# Altium integrated library Analog Devices Switches and Multiplexers Analog Switches.IntLib: 575 symbols (part 23 of 23)
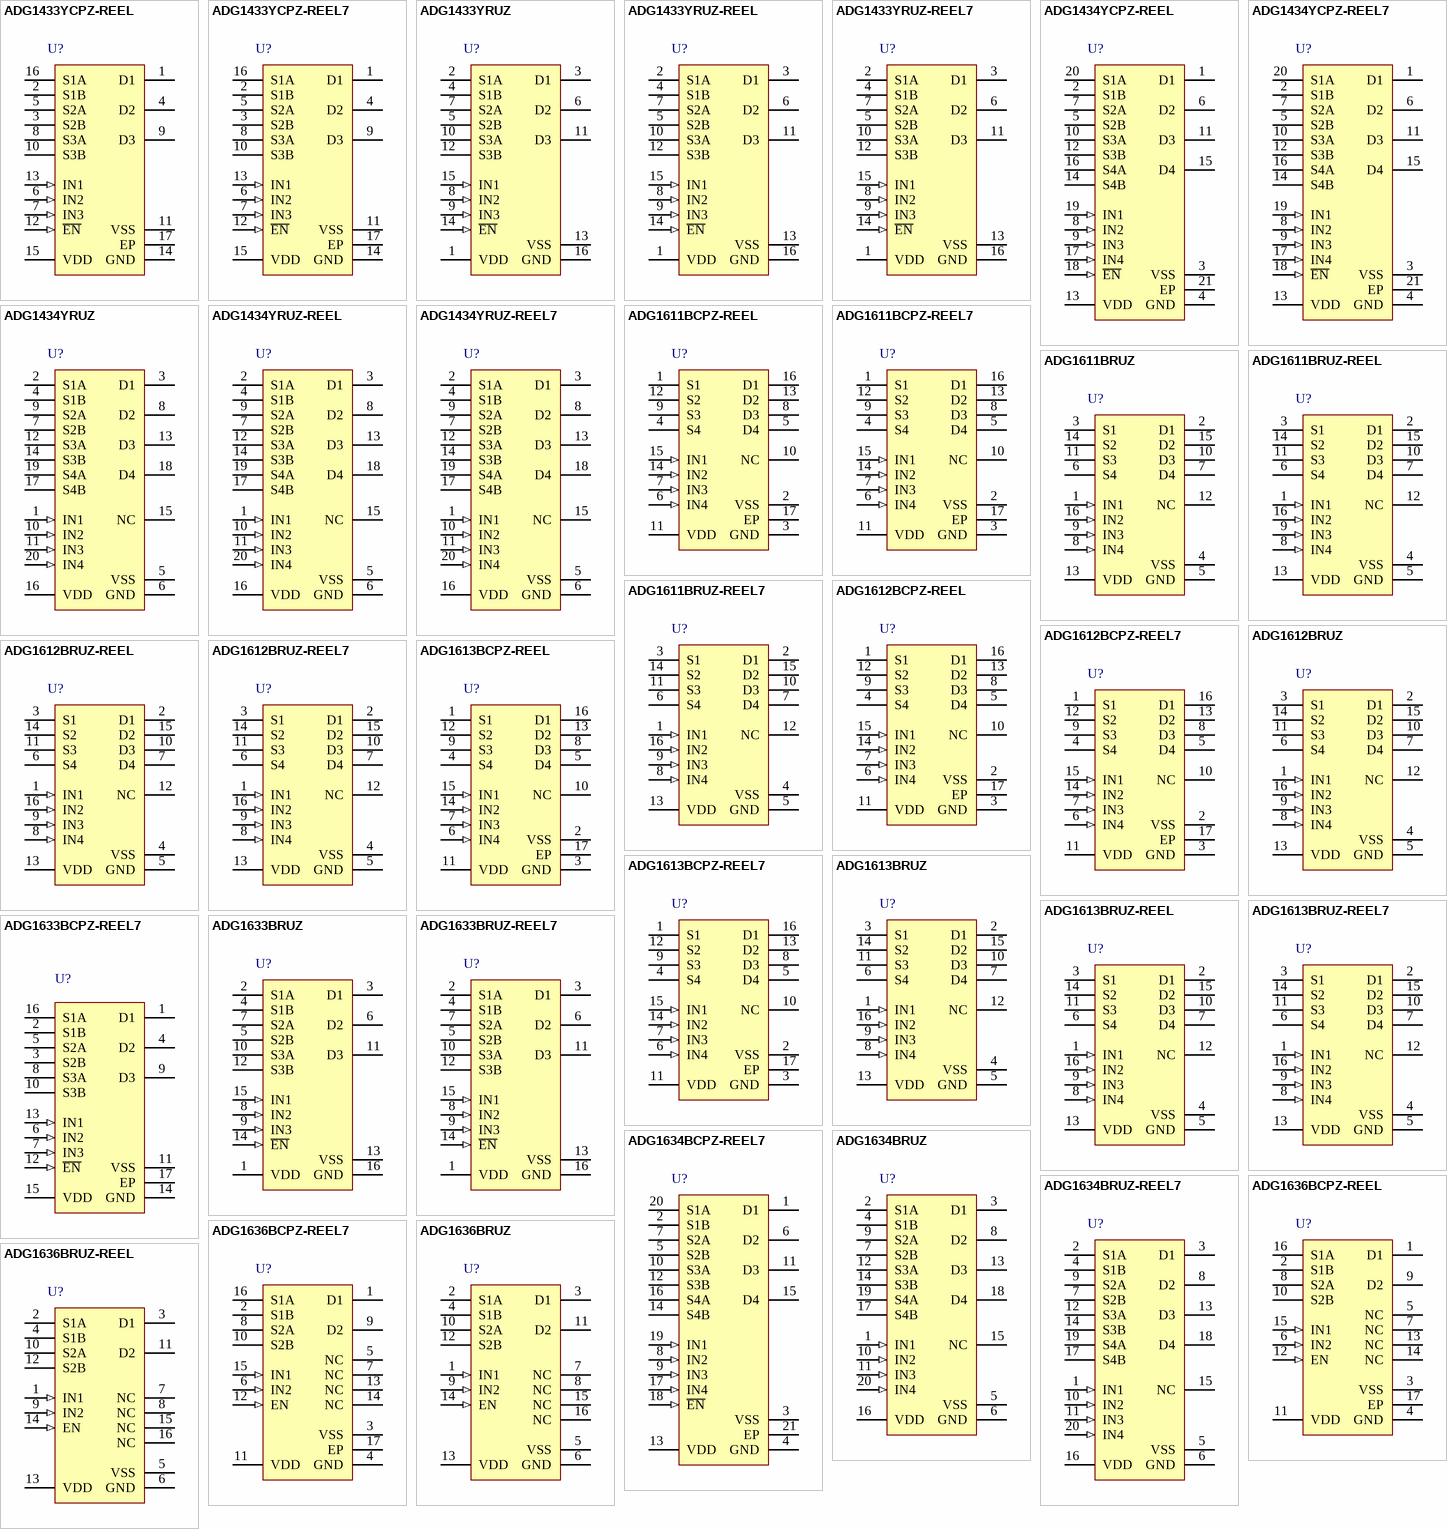
[diagram p37: symbols ADG1433YCPZ-REEL to ADG1636BRUZ-REEL]

## ADG1633BRUZ
designator U?
4.5 Ohm Ron, Triple SPDT +/-5 V, +12 V, +5 V, and +3.3 V Switch, -40 to 125 degC, 16-pin SOP (RU-16), Tube; Manufacturer: Analog Devices; PartNumber: ADG1633BRUZ; Id, Is (ON): 20pA, 20pA, 20pA, 10pA; Is OFF: 10pA, 10pA, 10pA, 10pA; Power Dissipation: 12nW; Ron (ohms): 4.5; DatasheetVersion: Rev. 0; PackageVersion: Nov-02; PackageReference: RU-16; PackageDescription: 16-Pin Thin Shrink Small Outline Package, Body 5 x 4.4 mm, Pitch 0.65 mm; Supplier 1: Digi-Key; Supplier Part Number 1: ADG1633BRUZ-ND; Supplier 2: Farnell; Supplier Part Number 2: 1771948; Supplier 3: Newark; Supplier Part Number 3: 26R2420; Supplier 4: Mouser; Supplier Part Number 4: 584-ADG1633BRUZ; Configuration: SPDT; Packing: Tube; Mounting Technology: Surface Mount; Code_JEDEC: MO-153AB; ComponentLink1Description: Manufacturer URL; ComponentLink1URL: http://www.analog.com/en/index.html; ComponentLink2Description: Datasheet; ComponentLink2URL: http://www.analog.com/static/imported-files/data_sheets/ADG1633_1634.pdf; ComponentLink3Description: Package Specification; ComponentLink3URL: http:/www.analog.com/static/imported-files/packages/36244347913743854010197452789RU16.pdf
footprint ADI-RU-16_N (SOP, 16-Leads, Body 5x4.4mm, Pitch 0.65mm, IPC Medium Density)
footprint ADI-RU-16_L (SOP, 16-Leads, Body 5x4.4mm, Pitch 0.65mm, IPC High Density)
footprint ADI-RU-16_M (SOP, 16-Leads, Body 5x4.4mm, Pitch 0.65mm, IPC Low Density)
pins: 1 VDD (power) "Most Positive Power Supply Potential.", 2 S1A "Source Terminal 1A. Can be an input or an output.", 3 D1 "Drain Terminal 1. Can be an input or an output.", 4 S1B "Source Terminal 1B. Can be an input or an output.", 5 S2B "Source Terminal 2B. Can be an input or an output.", 6 D2 "Drain Terminal 2. Can be an input or an output.", 7 S2A "Source Terminal 2A. Can be an input or an output.", 8 IN2 (in) "Logic Control Input 2.", 9 IN3 (in) "Logic Control Input 3.", 10 S3A "Source Terminal 3A. Can be an input or an output.", 11 D3 "Drain Terminal 3. Can be an input or an output.", 12 S3B "Source Terminal 3B. Can be an input or an output.", 13 VSS (power) "Most Negative Power Supply Potential. In single-supply applications, this pin can be connected to ground.", 14 ~{EN} (in) "Active Low Digital Input. When this pin is high, the device is disabled and all switches are off. When this pin is low, INx logic inputs determine the on switches.", 15 IN1 (in) "Logic Control Input 1.", 16 GND (power) "Ground (0 V) Reference."

## ADG1633BRUZ-REEL7
designator U?
4.5 Ohm Ron, Triple SPDT +/-5 V, +12 V, +5 V, and +3.3 V Switch, -40 to 125 degC, 16-pin SOP (RU-16), Reel; Manufacturer: Analog Devices; PartNumber: ADG1633BRUZ-REEL7; Id, Is (ON): 20pA, 20pA, 20pA, 10pA; Is OFF: 10pA, 10pA, 10pA, 10pA; Power Dissipation: 12nW; Ron (ohms): 4.5; DatasheetVersion: Rev. 0; PackageVersion: Nov-02; PackageReference: RU-16; PackageDescription: 16-Pin Thin Shrink Small Outline Package, Body 5 x 4.4 mm, Pitch 0.65 mm; Supplier 1: Digi-Key; Supplier Part Number 1: ADG1633BRUZ-REEL7-ND; Supplier 2: Mouser; Supplier Part Number 2: 584-ADG1633BRUZ-R7; Configuration: SPDT; Packing: Reel; Mounting Technology: Surface Mount; Code_JEDEC: MO-153AB; ComponentLink1Description: Manufacturer URL; ComponentLink1URL: http://www.analog.com/en/index.html; ComponentLink2Description: Datasheet; ComponentLink2URL: http://www.analog.com/static/imported-files/data_sheets/ADG1633_1634.pdf; ComponentLink3Description: Package Specification; ComponentLink3URL: http:/www.analog.com/static/imported-files/packages/36244347913743854010197452789RU16.pdf
footprint ADI-RU-16_N (SOP, 16-Leads, Body 5x4.4mm, Pitch 0.65mm, IPC Medium Density)
footprint ADI-RU-16_L (SOP, 16-Leads, Body 5x4.4mm, Pitch 0.65mm, IPC High Density)
footprint ADI-RU-16_M (SOP, 16-Leads, Body 5x4.4mm, Pitch 0.65mm, IPC Low Density)
pins: 1 VDD (power) "Most Positive Power Supply Potential.", 2 S1A "Source Terminal 1A. Can be an input or an output.", 3 D1 "Drain Terminal 1. Can be an input or an output.", 4 S1B "Source Terminal 1B. Can be an input or an output.", 5 S2B "Source Terminal 2B. Can be an input or an output.", 6 D2 "Drain Terminal 2. Can be an input or an output.", 7 S2A "Source Terminal 2A. Can be an input or an output.", 8 IN2 (in) "Logic Control Input 2.", 9 IN3 (in) "Logic Control Input 3.", 10 S3A "Source Terminal 3A. Can be an input or an output.", 11 D3 "Drain Terminal 3. Can be an input or an output.", 12 S3B "Source Terminal 3B. Can be an input or an output.", 13 VSS (power) "Most Negative Power Supply Potential. In single-supply applications, this pin can be connected to ground.", 14 ~{EN} (in) "Active Low Digital Input. When this pin is high, the device is disabled and all switches are off. When this pin is low, INx logic inputs determine the on switches.", 15 IN1 (in) "Logic Control Input 1.", 16 GND (power) "Ground (0 V) Reference."

## ADG1634BCPZ-REEL7
designator U?
4.5 Ohm RON, Quad SPDT +/-5 V, +12 V, +5 V, and +3.3 V Switch, -40 to 125 degC, 20-pin QFN (CP-20-4), Reel; Manufacturer: Analog Devices; PartNumber: ADG1634BCPZ-REEL7; Id, Is (ON): 20pA, 20pA, 20pA, 10pA; Is OFF: 10pA, 10pA, 10pA, 10pA; Power Dissipation: 12nW; Ron (ohms): 4.5; DatasheetVersion: Rev. 0; PackageVersion: 012508-B; PackageReference: CP-20-4; PackageDescription: 20-Pin Lead Frame Chip Scale Package, Body 4 x 4 mm, Pitch 0.5 mm; Supplier 1: Digi-Key; Supplier Part Number 1: ADG1634BCPZ-REEL7TR-ND; Supplier 2: Digi-Key; Supplier Part Number 2: ADG1634BCPZ-REEL7CT-ND; Supplier 3: Digi-Key; Supplier Part Number 3: ADG1634BCPZ-REEL7DKR-ND; Supplier 4: Farnell; Supplier Part Number 4: 2312944; Supplier 5: Newark; Supplier Part Number 5: 67W3125; Supplier 6: Newark; Supplier Part Number 6: 67R2183; Supplier 7: Mouser; Supplier Part Number 7: 584-ADG1634BCPZ-R7; Configuration: SPDT; Packing: Reel; Mounting Technology: Surface Mount; Code_JEDEC: MO-220-VGGD-1; ComponentLink1Description: Manufacturer URL; ComponentLink1URL: http://www.analog.com/en/index.html; ComponentLink2Description: Datasheet; ComponentLink2URL: http://www.analog.com/static/imported-files/data_sheets/ADG1633_1634.pdf; ComponentLink3Description: Package Specification; ComponentLink3URL: http://www.analog.com/static/imported-files/packages/PKG_PDF/LFCSP(CP)/CP_20_4.pdf
footprint ADI-CP-20-4_N (QFN, 20-Leads, Body 4x4mm, Pitch 0.5mm, Thermal Pad 2.5x2.5mm, IPC Medium Density)
footprint ADI-CP-20-4_L (QFN, 20-Leads, Body 4x4mm, Pitch 0.5mm, Thermal Pad 2.5x2.5mm, IPC High Density)
footprint ADI-CP-20-4_M (QFN, 20-Leads, Body 4x4mm, Pitch 0.5mm, Thermal Pad 2.5x2.5mm, IPC Low Density)
pins: 1 D1 "Drain Terminal 1. Can be an input or an output.", 2 S1B "Source Terminal 1B. Can be an input or an output.", 3 VSS (power) "Most Negative Power Supply Potential. In single-supply applications, this pin can be connected to ground.", 4 GND (power) "Ground (0 V) Reference.", 5 S2B "Source Terminal 2B. Can be an input or an output.", 6 D2 "Drain Terminal 2. Can be an input or an output.", 7 S2A "Source Terminal 2A. Can be an input or an output.", 8 IN2 (in) "Logic Control Input 2.", 9 IN3 (in) "Logic Control Input 3.", 10 S3A "Source Terminal 3A. Can be an input or an output.", 11 D3 "Drain Terminal 3. Can be an input or an output.", 12 S3B "Source Terminal 3B. Can be an input or an output.", 13 VDD (power) "Most Positive Power Supply Potential.", 14 S4B "Source Terminal 4B. Can be an input or an output.", 15 D4 "Drain Terminal 4. Can be an input or an output.", 16 S4A "Source Terminal 4A. Can be an input or an output.", 17 IN4 (in) "Logic Control Input 4.", 18 ~{EN} (in) "Active Low Digital Input. When this pin is high, the device is disabled and all switches are off. When this pin is low, INx logic inputs determine the on switches.", 19 IN1 (in) "Logic Control Input 1.", 20 S1A "Source Terminal 1A. Can be an input or an output.", 21 EP (power) "Exposed Pad. The exposed pad is tied to the substrate, VSS."

## ADG1634BRUZ
designator U?
4.5 Ohm RON, Quad SPDT +/-5 V, +12 V, +5 V, and +3.3 V Switch, -40 to 125 degC, 20-pin SOP (RU-20), Tube; Manufacturer: Analog Devices; PartNumber: ADG1634BRUZ; Id, Is (ON): 20pA, 20pA, 20pA, 10pA; Is OFF: 10pA, 10pA, 10pA, 10pA; Power Dissipation: 12nW; Ron (ohms): 4.5; DatasheetVersion: Rev. 0; PackageVersion: Jan-03; PackageReference: RU-20; PackageDescription: 20-Pin Thin Shrink Small Outline Package, Body 6.5 x 4.4 mm, Pitch 0.65 mm; Supplier 1: Digi-Key; Supplier Part Number 1: ADG1634BRUZ-ND; Supplier 2: Farnell; Supplier Part Number 2: 1858058; Supplier 3: Newark; Supplier Part Number 3: 26R2422; Supplier 4: Mouser; Supplier Part Number 4: 584-ADG1634BRUZ; Configuration: SPDT; Packing: Tube; Mounting Technology: Surface Mount; Code_JEDEC: MO-153AC; ComponentLink1Description: Manufacturer URL; ComponentLink1URL: http://www.analog.com/en/index.html; ComponentLink2Description: Datasheet; ComponentLink2URL: http://www.analog.com/static/imported-files/data_sheets/ADG1633_1634.pdf; ComponentLink3Description: Package Specification; ComponentLink3URL: http://www.analog.com/static/imported-files/packages/364515793657813558433715854054607941441RU20.pdf
footprint ADI-RU-20_N (SOP, 20-Leads, Body 6.5x4.4mm, Pitch 0.65mm, IPC Medium Density)
footprint ADI-RU-20_L (SOP, 20-Leads, Body 6.5x4.4mm, Pitch 0.65mm, IPC High Density)
footprint ADI-RU-20_M (SOP, 20-Leads, Body 6.5x4.4mm, Pitch 0.65mm, IPC Low Density)
pins: 1 IN1 (in) "Logic Control Input 1.", 2 S1A "Source Terminal 1A. Can be an input or an output.", 3 D1 "Drain Terminal 1. Can be an input or an output.", 4 S1B "Source Terminal 1B. Can be an input or an output.", 5 VSS (power) "Most Negative Power Supply Potential. In single-supply applications, this pin can be connected to ground.", 6 GND (power) "Ground (0 V) Reference.", 7 S2B "Source Terminal 2B. Can be an input or an output.", 8 D2 "Drain Terminal 2. Can be an input or an output.", 9 S2A "Source Terminal 2A. Can be an input or an output.", 10 IN2 (in) "Logic Control Input 2", 11 IN3 (in) "Logic Control Input 3.", 12 S3A "Source Terminal 3A. Can be an input or an output.", 13 D3 "Drain Terminal 3. Can be an input or an output.", 14 S3B "Source Terminal 3B. Can be an input or an output.", 15 NC "No Connect.", 16 VDD (power) "Most Positive Power Supply Potential.", 17 S4B "Source Terminal 4B. Can be an input or an output.", 18 D4 "Drain Terminal 4. Can be an input or an output.", 19 S4A "Source Terminal 4A. Can be an input or an output.", 20 IN4 (in) "Logic Control Input 4."

## ADG1634BRUZ-REEL7
designator U?
4.5 Ohm RON, Quad SPDT +/-5 V, +12 V, +5 V, and +3.3 V Switch, -40 to 125 degC, 20-pin SOP (RU-20), Reel; Manufacturer: Analog Devices; PartNumber: ADG1634BRUZ-REEL7; Id, Is (ON): 20pA, 20pA, 20pA, 10pA; Is OFF: 10pA, 10pA, 10pA, 10pA; Power Dissipation: 12nW; Ron (ohms): 4.5; DatasheetVersion: Rev. 0; PackageVersion: Jan-03; PackageReference: RU-20; PackageDescription: 20-Pin Thin Shrink Small Outline Package, Body 6.5 x 4.4 mm, Pitch 0.65 mm; Supplier 1: Digi-Key; Supplier Part Number 1: ADG1634BRUZ-REEL7-ND; Supplier 2: Mouser; Supplier Part Number 2: 584-ADG1634BRUZ-R7; Configuration: SPDT; Packing: Reel; Mounting Technology: Surface Mount; Code_JEDEC: MO-153AC; ComponentLink1Description: Manufacturer URL; ComponentLink1URL: http://www.analog.com/en/index.html; ComponentLink2Description: Datasheet; ComponentLink2URL: http://www.analog.com/static/imported-files/data_sheets/ADG1633_1634.pdf; ComponentLink3Description: Package Specification; ComponentLink3URL: http://www.analog.com/static/imported-files/packages/364515793657813558433715854054607941441RU20.pdf
footprint ADI-RU-20_N (SOP, 20-Leads, Body 6.5x4.4mm, Pitch 0.65mm, IPC Medium Density)
footprint ADI-RU-20_L (SOP, 20-Leads, Body 6.5x4.4mm, Pitch 0.65mm, IPC High Density)
footprint ADI-RU-20_M (SOP, 20-Leads, Body 6.5x4.4mm, Pitch 0.65mm, IPC Low Density)
pins: 1 IN1 (in) "Logic Control Input 1.", 2 S1A "Source Terminal 1A. Can be an input or an output.", 3 D1 "Drain Terminal 1. Can be an input or an output.", 4 S1B "Source Terminal 1B. Can be an input or an output.", 5 VSS (power) "Most Negative Power Supply Potential. In single-supply applications, this pin can be connected to ground.", 6 GND (power) "Ground (0 V) Reference.", 7 S2B "Source Terminal 2B. Can be an input or an output.", 8 D2 "Drain Terminal 2. Can be an input or an output.", 9 S2A "Source Terminal 2A. Can be an input or an output.", 10 IN2 (in) "Logic Control Input 2", 11 IN3 (in) "Logic Control Input 3.", 12 S3A "Source Terminal 3A. Can be an input or an output.", 13 D3 "Drain Terminal 3. Can be an input or an output.", 14 S3B "Source Terminal 3B. Can be an input or an output.", 15 NC "No Connect.", 16 VDD (power) "Most Positive Power Supply Potential.", 17 S4B "Source Terminal 4B. Can be an input or an output.", 18 D4 "Drain Terminal 4. Can be an input or an output.", 19 S4A "Source Terminal 4A. Can be an input or an output.", 20 IN4 (in) "Logic Control Input 4."

## ADG1636BCPZ-REEL
designator U?
1 Ohm Typical on Resistance, +/-5 V, +12 V, +5 V, and +3.3 V Dual SPDT Switch, -40 to 125 degC, 16-pin QFN (CP-16-13), Reel; Manufacturer: Analog Devices; PartNumber: ADG1636BCPZ-REEL; Id, Is (ON): 300pA, 300pA, 100pA, 50pA; Is OFF: 100pA, 100pA, 50pA, 20pA; Power Dissipation: 4.5mW; Ron (ohms): 1; DatasheetVersion: Rev. A; PackageVersion: 031006-A, 06/2006; PackageReference: CP-16-13; PackageDescription: 16-Pin Lead Frame Chip Scale Package, Body 4 x 4 mm, Pitch 0.65 mm; Supplier 1: Digi-Key; Supplier Part Number 1: ADG1636BCPZ-REEL-ND; Supplier 2: Mouser; Supplier Part Number 2: 584-ADG1636BCPZ-R; Configuration: SPDT; Packing: Reel; Mounting Technology: Surface Mount; Code_JEDEC: MO-220-VGGC.; ComponentLink1Description: Manufacturer URL; ComponentLink1URL: http://www.analog.com/en/index.html; ComponentLink2Description: Datasheet; ComponentLink2URL: http://www.analog.com/static/imported-files/data_sheets/ADG1636.pdf; ComponentLink3Description: Package Specification; ComponentLink3URL: http://www.analog.com/static/imported-files/packages/PKG_PDF/LFCSP(CP)/CP-16/CP_16_13.pdf
footprint ADI-CP-16-13_N (QFN, 16-Leads, Body 4x4mm, Pitch 0.65mm, Thermal Pad 2.5x2.5mm, IPC Medium Density)
footprint ADI-CP-16-13_L (QFN, 16-Leads, Body 4x4mm, Pitch 0.65mm, Thermal Pad 2.5x2.5mm, IPC High Density)
footprint ADI-CP-16-13_M (QFN, 16-Leads, Body 4x4mm, Pitch 0.65mm, Thermal Pad 2.5x2.5mm, IPC Low Density)
pins: 1 D1 "Drain Terminal. This pin can be an input or output", 2 S1B "Source Terminal. This pin can be an input or output.", 3 VSS (power) "Most Negative Power Supply Potential.", 4 GND (power) "Ground (0 V) Reference", 5 NC "No Connection.", 6 IN2 (in) "Logic Control Input.", 7 NC "No Connection.", 8 S2A "Source Terminal. This pin can be an input or output.", 9 D2 "Drain Terminal. This pin can be an input or output", 10 S2B "Source Terminal. This pin can be an input or output.", 11 VDD (power) "Most Positive Power Supply Potential.", 12 EN (in) "Active High Digital Input. When this pin is low, the device is disabled and all switches are off. When this pin is high, the Ax logic inputs determine the on switches.", 13 NC "No Connection.", 14 NC "No Connection.", 15 IN1 (in) "Logic Control Input.", 16 S1A "Source Terminal. This pin can be an input or output.", 17 EP (power) "Exposed Pad. Tied to substrate, VSS"

## ADG1636BCPZ-REEL7
designator U?
1 Ohm Typical on Resistance, +/-5 V, +12 V, +5 V, and +3.3 V Dual SPDT Switch, -40 to 125 degC, 16-pin QFN (CP-16-13), Reel; Manufacturer: Analog Devices; PartNumber: ADG1636BCPZ-REEL7; Id, Is (ON): 300pA, 300pA, 100pA, 50pA; Is OFF: 100pA, 100pA, 50pA, 20pA; Power Dissipation: 4.5mW; Ron (ohms): 1; DatasheetVersion: Rev. A; PackageVersion: 031006-A, 06/2006; PackageReference: CP-16-13; PackageDescription: 16-Pin Lead Frame Chip Scale Package, Body 4 x 4 mm, Pitch 0.65 mm; Supplier 1: Digi-Key; Supplier Part Number 1: ADG1636BCPZ-REEL7TR-ND; Supplier 2: Digi-Key; Supplier Part Number 2: ADG1636BCPZ-REEL7CT-ND; Supplier 3: Digi-Key; Supplier Part Number 3: ADG1636BCPZ-REEL7DKR-ND; Supplier 4: Farnell; Supplier Part Number 4: 2312988; Supplier 5: Newark; Supplier Part Number 5: 74P0670; Supplier 6: Newark; Supplier Part Number 6: 71P7821; Supplier 7: Mouser; Supplier Part Number 7: 584-ADG1636BCPZ-R7; Configuration: SPDT; Packing: Reel; Mounting Technology: Surface Mount; Code_JEDEC: MO-220-VGGC.; ComponentLink1Description: Manufacturer URL; ComponentLink1URL: http://www.analog.com/en/index.html; ComponentLink2Description: Datasheet; ComponentLink2URL: http://www.analog.com/static/imported-files/data_sheets/ADG1636.pdf; ComponentLink3Description: Package Specification; ComponentLink3URL: http://www.analog.com/static/imported-files/packages/PKG_PDF/LFCSP(CP)/CP-16/CP_16_13.pdf
footprint ADI-CP-16-13_N (QFN, 16-Leads, Body 4x4mm, Pitch 0.65mm, Thermal Pad 2.5x2.5mm, IPC Medium Density)
footprint ADI-CP-16-13_L (QFN, 16-Leads, Body 4x4mm, Pitch 0.65mm, Thermal Pad 2.5x2.5mm, IPC High Density)
footprint ADI-CP-16-13_M (QFN, 16-Leads, Body 4x4mm, Pitch 0.65mm, Thermal Pad 2.5x2.5mm, IPC Low Density)
pins: 1 D1 "Drain Terminal. This pin can be an input or output", 2 S1B "Source Terminal. This pin can be an input or output.", 3 VSS (power) "Most Negative Power Supply Potential.", 4 GND (power) "Ground (0 V) Reference", 5 NC "No Connection.", 6 IN2 (in) "Logic Control Input.", 7 NC "No Connection.", 8 S2A "Source Terminal. This pin can be an input or output.", 9 D2 "Drain Terminal. This pin can be an input or output", 10 S2B "Source Terminal. This pin can be an input or output.", 11 VDD (power) "Most Positive Power Supply Potential.", 12 EN (in) "Active High Digital Input. When this pin is low, the device is disabled and all switches are off. When this pin is high, the Ax logic inputs determine the on switches.", 13 NC "No Connection.", 14 NC "No Connection.", 15 IN1 (in) "Logic Control Input.", 16 S1A "Source Terminal. This pin can be an input or output.", 17 EP (power) "Exposed Pad. Tied to substrate, VSS"

## ADG1636BRUZ
designator U?
1 Ohm Typical on Resistance, +/-5 V, +12 V, +5 V, and +3.3 V Dual SPDT Switch, -40 to 125 degC, 16-pin SOP (RU-16), Tube; Manufacturer: Analog Devices; PartNumber: ADG1636BRUZ; Id, Is (ON): 300pA, 300pA, 100pA, 50pA; Is OFF: 100pA, 100pA, 50pA, 20pA; Power Dissipation: 4.5mW; Ron (ohms): 1; DatasheetVersion: Rev. A; PackageVersion: Nov-02; PackageReference: RU-16; PackageDescription: 16-Pin Thin Shrink Small Outline Package, Body 5 x 4.4 mm, Pitch 0.65 mm; Supplier 1: Digi-Key; Supplier Part Number 1: ADG1636BRUZ-ND; Supplier 2: Farnell; Supplier Part Number 2: 1838892; Supplier 3: Newark; Supplier Part Number 3: 71P7822; Supplier 4: Mouser; Supplier Part Number 4: 584-ADG1636BRUZ; Configuration: SPDT; Packing: Tube; Mounting Technology: Surface Mount; Code_JEDEC: MO-153AB; ComponentLink1Description: Manufacturer URL; ComponentLink1URL: http://www.analog.com/en/index.html; ComponentLink2Description: Datasheet; ComponentLink2URL: http://www.analog.com/static/imported-files/data_sheets/ADG1636.pdf; ComponentLink3Description: Package Specification; ComponentLink3URL: http:/www.analog.com/static/imported-files/packages/36244347913743854010197452789RU16.pdf
footprint ADI-RU-16_N (SOP, 16-Leads, Body 5x4.4mm, Pitch 0.65mm, IPC Medium Density)
footprint ADI-RU-16_L (SOP, 16-Leads, Body 5x4.4mm, Pitch 0.65mm, IPC High Density)
footprint ADI-RU-16_M (SOP, 16-Leads, Body 5x4.4mm, Pitch 0.65mm, IPC Low Density)
pins: 1 IN1 (in) "Logic Control Input.", 2 S1A "Source Terminal. This pin can be an input or output.", 3 D1 "Drain Terminal. This pin can be an input or output.", 4 S1B "Source Terminal. This pin can be an input or output.", 5 VSS (power) "Most Negative Power Supply Potential.", 6 GND (power) "Ground (0 V) Reference.", 7 NC "No Connection.", 8 NC "No Connection.", 9 IN2 (in) "Logic Control Input.", 10 S2A "Source Terminal. This pin can be an input or output.", 11 D2 "Drain Terminal. This pin can be an input or output.", 12 S2B "Source Terminal. This pin can be an input or output.", 13 VDD (power) "Most Positive Power Supply Potential.", 14 EN (in) "Active High Digital Input. When this pin is low, the device is disabled and all switches are off. When this pin is high, the Ax logic inputs determine the on switches.", 15 NC "No Connection.", 16 NC "No Connection."

## ADG1636BRUZ-REEL
designator U?
1 Ohm Typical on Resistance, +/-5 V, +12 V, +5 V, and +3.3 V Dual SPDT Switch, -40 to 125 degC, 16-pin SOP (RU-16), Reel; Manufacturer: Analog Devices; PartNumber: ADG1636BRUZ-REEL; Id, Is (ON): 300pA, 300pA, 100pA, 50pA; Is OFF: 100pA, 100pA, 50pA, 20pA; Power Dissipation: 4.5mW; Ron (ohms): 1; DatasheetVersion: Rev. A; PackageVersion: Nov-02; PackageReference: RU-16; PackageDescription: 16-Pin Thin Shrink Small Outline Package, Body 5 x 4.4 mm, Pitch 0.65 mm; Supplier 1: Digi-Key; Supplier Part Number 1: ADG1636BRUZ-REEL-ND; Supplier 2: Mouser; Supplier Part Number 2: 584-ADG1636BRUZ-R; Configuration: SPDT; Packing: Reel; Mounting Technology: Surface Mount; Code_JEDEC: MO-153AB; ComponentLink1Description: Manufacturer URL; ComponentLink1URL: http://www.analog.com/en/index.html; ComponentLink2Description: Datasheet; ComponentLink2URL: http://www.analog.com/static/imported-files/data_sheets/ADG1636.pdf; ComponentLink3Description: Package Specification; ComponentLink3URL: http:/www.analog.com/static/imported-files/packages/36244347913743854010197452789RU16.pdf
footprint ADI-RU-16_N (SOP, 16-Leads, Body 5x4.4mm, Pitch 0.65mm, IPC Medium Density)
footprint ADI-RU-16_L (SOP, 16-Leads, Body 5x4.4mm, Pitch 0.65mm, IPC High Density)
footprint ADI-RU-16_M (SOP, 16-Leads, Body 5x4.4mm, Pitch 0.65mm, IPC Low Density)
pins: 1 IN1 (in) "Logic Control Input.", 2 S1A "Source Terminal. This pin can be an input or output.", 3 D1 "Drain Terminal. This pin can be an input or output.", 4 S1B "Source Terminal. This pin can be an input or output.", 5 VSS (power) "Most Negative Power Supply Potential.", 6 GND (power) "Ground (0 V) Reference.", 7 NC "No Connection.", 8 NC "No Connection.", 9 IN2 (in) "Logic Control Input.", 10 S2A "Source Terminal. This pin can be an input or output.", 11 D2 "Drain Terminal. This pin can be an input or output.", 12 S2B "Source Terminal. This pin can be an input or output.", 13 VDD (power) "Most Positive Power Supply Potential.", 14 EN (in) "Active High Digital Input. When this pin is low, the device is disabled and all switches are off. When this pin is high, the Ax logic inputs determine the on switches.", 15 NC "No Connection.", 16 NC "No Connection."

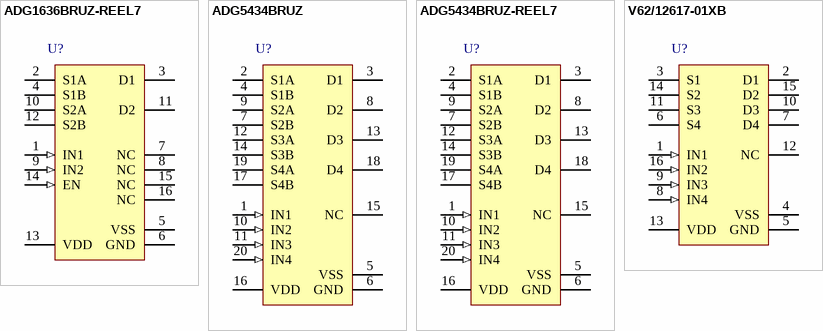
[diagram p15: symbols ADG1636BRUZ-REEL7 to V62/12617-01XB]

## ADG1636BRUZ-REEL7
designator U?
1 Ohm Typical on Resistance, +/-5 V, +12 V, +5 V, and +3.3 V Dual SPDT Switch, -40 to 125 degC, 16-pin SOP (RU-16), Reel; Manufacturer: Analog Devices; PartNumber: ADG1636BRUZ-REEL7; Id, Is (ON): 300pA, 300pA, 100pA, 50pA; Is OFF: 100pA, 100pA, 50pA, 20pA; Power Dissipation: 4.5mW; Ron (ohms): 1; DatasheetVersion: Rev. A; PackageVersion: Nov-02; PackageReference: RU-16; PackageDescription: 16-Pin Thin Shrink Small Outline Package, Body 5 x 4.4 mm, Pitch 0.65 mm; Supplier 1: Digi-Key; Supplier Part Number 1: ADG1636BRUZ-REEL7-ND; Supplier 2: Mouser; Supplier Part Number 2: 584-ADG1636BRUZ-R7; Configuration: SPDT; Packing: Reel; Mounting Technology: Surface Mount; Code_JEDEC: MO-153AB; ComponentLink1Description: Manufacturer URL; ComponentLink1URL: http://www.analog.com/en/index.html; ComponentLink2Description: Datasheet; ComponentLink2URL: http://www.analog.com/static/imported-files/data_sheets/ADG1636.pdf; ComponentLink3Description: Package Specification; ComponentLink3URL: http:/www.analog.com/static/imported-files/packages/36244347913743854010197452789RU16.pdf
footprint ADI-RU-16_N (SOP, 16-Leads, Body 5x4.4mm, Pitch 0.65mm, IPC Medium Density)
footprint ADI-RU-16_L (SOP, 16-Leads, Body 5x4.4mm, Pitch 0.65mm, IPC High Density)
footprint ADI-RU-16_M (SOP, 16-Leads, Body 5x4.4mm, Pitch 0.65mm, IPC Low Density)
pins: 1 IN1 (in) "Logic Control Input.", 2 S1A "Source Terminal. This pin can be an input or output.", 3 D1 "Drain Terminal. This pin can be an input or output.", 4 S1B "Source Terminal. This pin can be an input or output.", 5 VSS (power) "Most Negative Power Supply Potential.", 6 GND (power) "Ground (0 V) Reference.", 7 NC "No Connection.", 8 NC "No Connection.", 9 IN2 (in) "Logic Control Input.", 10 S2A "Source Terminal. This pin can be an input or output.", 11 D2 "Drain Terminal. This pin can be an input or output.", 12 S2B "Source Terminal. This pin can be an input or output.", 13 VDD (power) "Most Positive Power Supply Potential.", 14 EN (in) "Active High Digital Input. When this pin is low, the device is disabled and all switches are off. When this pin is high, the Ax logic inputs determine the on switches.", 15 NC "No Connection.", 16 NC "No Connection."

## ADG5434BRUZ
designator U?
High Voltage Latch-Up Proof, Quad SPDT Switches, 12.5 Ohm Ron, 20-pin SOP (RU-20), Tube; Manufacturer: Analog Devices; PartNumber: ADG5434BRUZ; # Sw Functions: 4; Max Neg Supply: -22V; Max Pos Supply: +40V; Ron (ohms): 13.5, 12.5, 26, 14.5; t ON: 160ns, 152ns, 228ns, 176ns; DatasheetVersion: Rev. B; PackageVersion: Jan-03; PackageReference: RU-20; PackageDescription: 20-Pin Thin Shrink Small Outline Package, Body 6.5 x 4.4 mm, Pitch 0.65 mm; Supplier 1: Digi-Key; Supplier Part Number 1: ADG5434BRUZ-ND; Supplier 2: Farnell; Supplier Part Number 2: 2081055; Supplier 3: Newark; Supplier Part Number 3: 18T1966; Supplier 4: Mouser; Supplier Part Number 4: 584-ADG5434BRUZ; Configuration: SPDT; Packing: Tube; Mounting Technology: Surface Mount; Code_JEDEC: MO-153AC; ComponentLink1Description: Manufacturer URL; ComponentLink1URL: http://www.analog.com/en/index.html; ComponentLink2Description: Datasheet; ComponentLink2URL: http://www.analog.com/static/imported-files/data_sheets/ADG5433_5434.pdf; ComponentLink3Description: Package Specification; ComponentLink3URL: http://www.analog.com/static/imported-files/packages/364515793657813558433715854054607941441RU20.pdf
footprint ADI-RU-20_N (SOP, 20-Leads, Body 6.5x4.4mm, Pitch 0.65mm, IPC Medium Density)
footprint ADI-RU-20_L (SOP, 20-Leads, Body 6.5x4.4mm, Pitch 0.65mm, IPC High Density)
footprint ADI-RU-20_M (SOP, 20-Leads, Body 6.5x4.4mm, Pitch 0.65mm, IPC Low Density)
pins: 1 IN1 (in) "Logic Control Input 1.", 2 S1A "Source Terminal 1A. This pin can be an input or an output.", 3 D1 "Drain Terminal 1. This pin can be an input or an output.", 4 S1B "Source Terminal 1B. This pin can be an input or an output.", 5 VSS (power) "Most Negative Power Supply Potential. In single-supply applications, this pin can be connected to ground.", 6 GND (power) "Ground (0 V) Reference.", 7 S2B "Source Terminal 2B. This pin can be an input or an output.", 8 D2 "Drain Terminal 2. This pin can be an input or an output.", 9 S2A "Source Terminal 2A. This pin can be an input or an output.", 10 IN2 (in) "Logic Control Input 2.", 11 IN3 (in) "Logic Control Input 3.", 12 S3A "Source Terminal 3A. This pin can be an input or an output.", 13 D3 "Drain Terminal 3. This pin can be an input or an output.", 14 S3B "Source Terminal 3B. This pin can be an input or an output.", 15 NC "No Connect.", 16 VDD (power) "Most Positive Power Supply Potential.", 17 S4B "Source Terminal 4B. This pin can be an input or an output.", 18 D4 "Drain Terminal 4. This pin can be an input or an output.", 19 S4A "Source Terminal 4A. This pin can be an input or an output.", 20 IN4 (in) "Logic Control Input 4."

## ADG5434BRUZ-REEL7
designator U?
High Voltage Latch-Up Proof, Quad SPDT Switches, 12.5 Ohm Ron, 20-pin SOP (RU-20), Reel; Manufacturer: Analog Devices; PartNumber: ADG5434BRUZ-REEL7; # Sw Functions: 4; Max Neg Supply: -22V; Max Pos Supply: +40V; Ron (ohms): 13.5, 12.5, 26, 14.5; t ON: 160ns, 152ns, 228ns, 176ns; DatasheetVersion: Rev. B; PackageVersion: Jan-03; PackageReference: RU-20; PackageDescription: 20-Pin Thin Shrink Small Outline Package, Body 6.5 x 4.4 mm, Pitch 0.65 mm; Supplier 1: Farnell; Supplier Part Number 1: 2102718; Supplier 2: Newark; Supplier Part Number 2: 18T1967; Supplier 3: Newark; Supplier Part Number 3: 92T1807; Supplier 4: Mouser; Supplier Part Number 4: 584-ADG5434BRUZ-R7; Configuration: SPDT; Packing: Reel; Mounting Technology: Surface Mount; Code_JEDEC: MO-153AC; ComponentLink1Description: Manufacturer URL; ComponentLink1URL: http://www.analog.com/en/index.html; ComponentLink2Description: Datasheet; ComponentLink2URL: http://www.analog.com/static/imported-files/data_sheets/ADG5433_5434.pdf; ComponentLink3Description: Package Specification; ComponentLink3URL: http://www.analog.com/static/imported-files/packages/364515793657813558433715854054607941441RU20.pdf
footprint ADI-RU-20_N (SOP, 20-Leads, Body 6.5x4.4mm, Pitch 0.65mm, IPC Medium Density)
footprint ADI-RU-20_L (SOP, 20-Leads, Body 6.5x4.4mm, Pitch 0.65mm, IPC High Density)
footprint ADI-RU-20_M (SOP, 20-Leads, Body 6.5x4.4mm, Pitch 0.65mm, IPC Low Density)
pins: 1 IN1 (in) "Logic Control Input 1.", 2 S1A "Source Terminal 1A. This pin can be an input or an output.", 3 D1 "Drain Terminal 1. This pin can be an input or an output.", 4 S1B "Source Terminal 1B. This pin can be an input or an output.", 5 VSS (power) "Most Negative Power Supply Potential. In single-supply applications, this pin can be connected to ground.", 6 GND (power) "Ground (0 V) Reference.", 7 S2B "Source Terminal 2B. This pin can be an input or an output.", 8 D2 "Drain Terminal 2. This pin can be an input or an output.", 9 S2A "Source Terminal 2A. This pin can be an input or an output.", 10 IN2 (in) "Logic Control Input 2.", 11 IN3 (in) "Logic Control Input 3.", 12 S3A "Source Terminal 3A. This pin can be an input or an output.", 13 D3 "Drain Terminal 3. This pin can be an input or an output.", 14 S3B "Source Terminal 3B. This pin can be an input or an output.", 15 NC "No Connect.", 16 VDD (power) "Most Positive Power Supply Potential.", 17 S4B "Source Terminal 4B. This pin can be an input or an output.", 18 D4 "Drain Terminal 4. This pin can be an input or an output.", 19 S4A "Source Terminal 4A. This pin can be an input or an output.", 20 IN4 (in) "Logic Control Input 4."

## V62/12617-01XB
designator U?
Low Capacitance, Low Charge Injection, +/-15 V / +12 V iCMOS Quad SPST Switches, 120 Ohm Ron, 16-pin SOP (RU-16), Reel; Manufacturer: Analog Devices; PartNumber: V62/12617-01XB; # Sw Functions: 4; DatasheetVersion: Rev. B; PackageVersion: Nov-02; PackageReference: RU-16; PackageDescription: 16-Pin Thin Shrink Small Outline Package, Body 5 x 4.4 mm, Pitch 0.65 mm; Supplier 1: Newark; Supplier Part Number 1: 95T2693; Supplier 2: Mouser; Supplier Part Number 2: 584-V6212617-01XB; Configuration: SPST; Packing: Reel; Mounting Technology: Surface Mount; Code_JEDEC: MO-153AB; ComponentLink1Description: Manufacturer URL; ComponentLink1URL: http://www.analog.com/en/index.html; ComponentLink2Description: Datasheet; ComponentLink2URL: http://www.analog.com/static/imported-files/data_sheets/ADG1211_1212_1213.pdf; ComponentLink3Description: Package Specification; ComponentLink3URL: http:/www.analog.com/static/imported-files/packages/36244347913743854010197452789RU16.pdf
footprint ADI-RU-16_N (SOP, 16-Leads, Body 5x4.4mm, Pitch 0.65mm, IPC Medium Density)
footprint ADI-RU-16_L (SOP, 16-Leads, Body 5x4.4mm, Pitch 0.65mm, IPC High Density)
footprint ADI-RU-16_M (SOP, 16-Leads, Body 5x4.4mm, Pitch 0.65mm, IPC Low Density)
pins: 1 IN1 (in) "Logic Control Input.", 2 D1 "Drain Terminal. Can be an input or output.", 3 S1 "Source Terminal. Can be an input or output.", 4 VSS (power) "Most Negative Power Supply Potential.", 5 GND (power) "Ground (0 V) Reference.", 6 S4 "Source Terminal. Can be an input or output.", 7 D4 "Drain Terminal. Can be an input or output.", 8 IN4 (in) "Logic Control Input.", 9 IN3 (in) "Logic Control Input.", 10 D3 "Drain Terminal. Can be an input or output.", 11 S3 "Source Terminal. Can be an input or output.", 12 NC "No Internal Connection.", 13 VDD (power) "Most Positive Power Supply Potential.", 14 S2 "Source Terminal. Can be an input or output.", 15 D2 "Drain Terminal. Can be an input or output.", 16 IN2 (in) "Logic Control Input."